# Altium schematic symbol library 74438336068.SchLib: 1 symbol
Pins are listed as number, name and electrical type; pins without a type are passive.

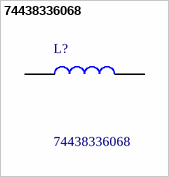
[diagram p0: symbol 74438336068]

## 74438336068
designator L?
WE-MAPI SMT Power Inductor Size 3020; L = 6.8 H +/-20%; IR = 2.15 A; Isat = 3.65 A; RDCmax = 193 m; Manufacturer_Name: Wurth Elektronik; Geometry.Height: 2mm; Mouser Part Number: 710-74438336068; Mouser Price/Stock: https://www.mouser.co.uk/ProductDetail/Wurth-Elektronik/74438336068?qs=iC14BvcgY%2F2jjdn7Q0ci3w%3D%3D; Manufacturer_Part_Number: 74438336068; Datasheet Link: https://www.we-online.com/catalog/datasheet/74438336068.pdf
footprint INDPM3030X200N
pins: 1, 2